# Altium footprint library TST-103-01-G-D.PcbLib: 1 footprints
Each footprint in its own frame and in the unit in brackets; x right, y up, seen from the top. Pads: shape width x height; smd on the part's side, far side on the other; paste and mask are expansions set on the pad; w line width, h text height; cw(c..) or ccw(c..) is an arc to the next point about the centre after c.
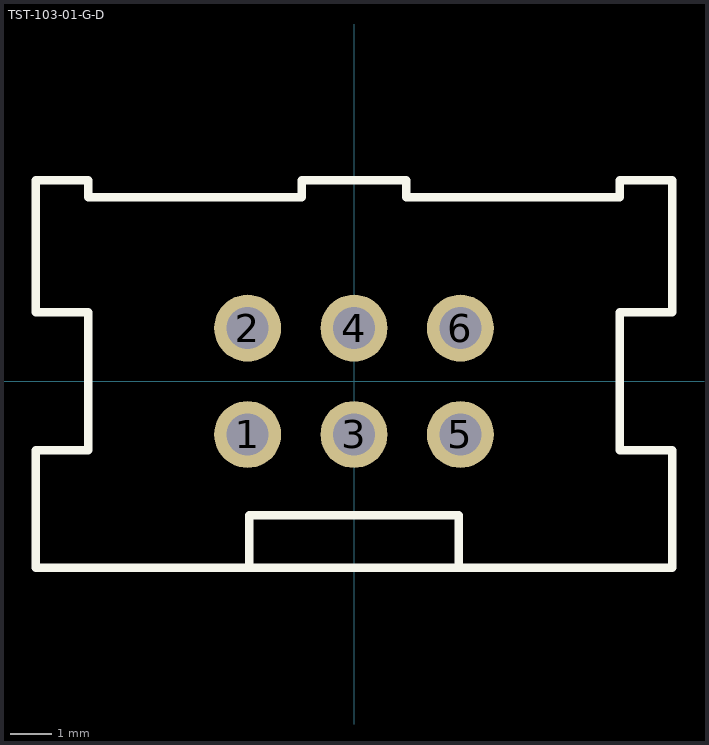
[diagram p0: the footprint, top view; thin cyan lines are the x and y axes]

## TST-103-01-G-D [mm]
pads (6):
  round 1.6 hole 1: 1(-2.54,-1.27) 2(-2.54,1.27) 3(0,-1.27) 4(0,1.27) 5(2.54,-1.27) 6(2.54,1.27)
Top Overlay:
  lines w0.2: -2.5,-4.45 -7.6,-4.45 -7.6,-1.65 -6.35,-1.65 -6.35,1.65 -7.6,1.65 -7.6,4.8 -6.35,4.8 -6.35,4.4 -1.25,4.4 -1.25,4.8 1.25,4.8 1.25,4.4 6.35,4.4 6.35,4.8 7.6,4.8 7.6,1.65 6.35,1.65 6.35,-1.65 7.6,-1.65 7.6,-4.45 2.5,-4.45 ; -2.5,-4.45 -2.5,-3.2 2.5,-3.2 2.5,-4.45 ; -2.5,-4.45 2.5,-4.45
3D body "TST-103-01-G-D.stp": height 8.89, standoff -3.3, extent -7.62,-4.445 7.62,4.826